# EAGLE library part FDC6333C-DUAL-N-P-MOSFET (library Pinoccio)
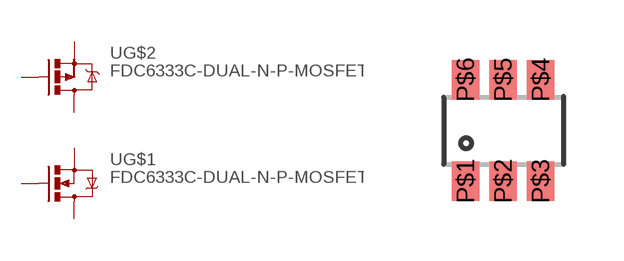
[diagram p17: symbol with the pads of SSOT-6; footprint SSOT-6]

Designator prefix -; gates G$1=MOSFET-NCHANNEL G$2=MOSFET-PCHANNEL

## FDC6333C-DUAL-N-P-MOSFETSSOT-6  [SSOT-6]
P$1  G$1:G  pas
P$2  G$2:S  pas
P$3  G$2:G  pas
P$4  G$2:D  pas
P$5  G$1:S  pas
P$6  G$1:D  pas

## Footprint SSOT-6 (pad centres in mm)
smd 0.686 x 0.991: P$1 0.343,0.495; P$2 1.283,0.495; P$3 2.223,0.495; P$4 2.223,3.035; P$5 1.283,3.035; P$6 0.343,3.035